# EAGLE library part SID (library 8Bit_Parts)
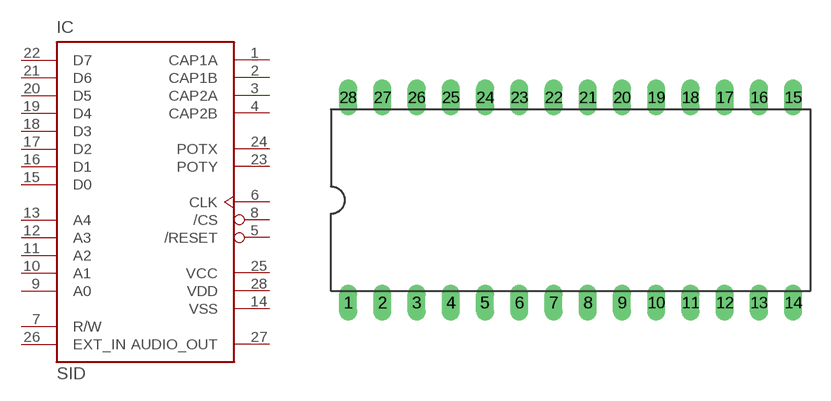
[diagram p12: symbol with the pads of DIL28; footprint DIL28]

Designator prefix IC

## SID  [DIL28]
1  CAP1A  in
2  CAP1B  in
3  CAP2A  in
4  CAP2B  in
5  /RESET  in
6  CLK  in
7  R/W  in
8  /CS  in
9  A0  in
10  A1  in
11  A2  in
12  A3  in
13  A4  in
14  VSS  pwr
15  D0
16  D1
17  D2
18  D3
19  D4
20  D5
21  D6
22  D7
23  POTY  in
24  POTX  in
25  VCC  pwr
26  EXT_IN  in
27  AUDIO_OUT  out
28  VDD  pwr

## Footprint DIL28 (pad centres in mm)
Dual In Line Package
drill 0.813 long: 1 -16.51,-7.62; 2 -13.97,-7.62; 3 -11.43,-7.62; 4 -8.89,-7.62; 5 -6.35,-7.62; 6 -3.81,-7.62; 7 -1.27,-7.62; 8 1.27,-7.62; 9 3.81,-7.62; 10 6.35,-7.62; 11 8.89,-7.62; 12 11.43,-7.62; 13 13.97,-7.62; 14 16.51,-7.62; 15 16.51,7.62; 16 13.97,7.62; 17 11.43,7.62; 18 8.89,7.62; 19 6.35,7.62; 20 3.81,7.62; 21 1.27,7.62; 22 -1.27,7.62; 23 -3.81,7.62; 24 -6.35,7.62; 25 -8.89,7.62; 26 -11.43,7.62; 27 -13.97,7.62; 28 -16.51,7.62